# EAGLE library part SW_DPDT (library akita)
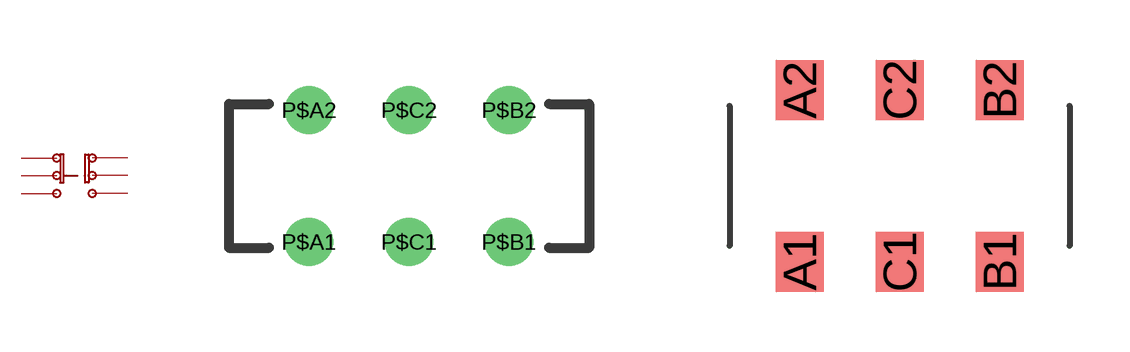
[diagram p154: symbol with the pads of SW_IS2235; footprints SW_IS2235, SW_SSSS2]

Designator prefix SW

## SW_DPDT  [SW_IS2235]
P$A1  P$A1
P$A2  P$A2
P$B1  P$B1
P$B2  P$B2
P$C1  P$C1
P$C2  P$C2

## SW_DPDTSSSS2  [SW_SSSS2]
A1  P$A1
A2  P$A2
B1  P$B1
B2  P$B2
C1  P$C1
C2  P$C2

## Footprint SW_IS2235 (pad centres in mm)
Slide SW, IS-2235-G, Akizuki
drill 0.7: P$A1 -2.5,-1.65; P$A2 -2.5,1.65; P$B1 2.5,-1.65; P$B2 2.5,1.65; P$C1 0,-1.65; P$C2 0,1.65

## Footprint SW_SSSS2 (pad centres in mm)
Alps, 6p Slide, SMD
smd 1.2 x 1.5: A1 -2.5,-2.15; A2 -2.5,2.15; B1 2.5,-2.15; B2 2.5,2.15; C1 0,-2.15; C2 0,2.15